# EAGLE library part PRO-MINI-BREAKOUT (library spietz-library)
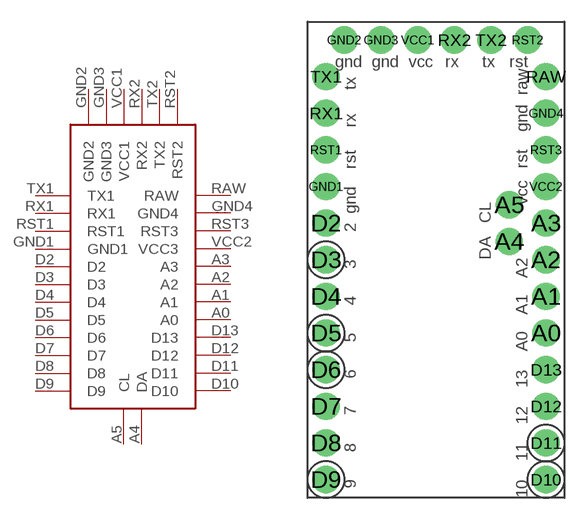
[diagram p2: symbol with the pads of PRO-MINI-BREAKOUT; footprint PRO-MINI-BREAKOUT]

Designator prefix -

## PRO-MINI-BREAKOUT  [PRO-MINI-BREAKOUT]
A0  A0
A1  A1
A2  A2
A3  A3
A4  DA
A5  CL
D2  D2
D3  D3
D4  D4
D5  D5
D6  D6
D7  D7
D8  D8
D9  D9
D10  D10
D11  D11
D12  D12
D13  D13
GND1  GND1
GND2  GND2
GND3  GND3
GND4  GND4
RAW  RAW
RST1  RST1
RST2  RST2
RST3  RST3
RX1  RX1
RX2  RX2
TX1  TX1
TX2  TX2
VCC1  VCC1
VCC2  VCC3

## Footprint PRO-MINI-BREAKOUT (pad centres in mm)
drill 1.016 pad 1.88: A0 7.62,11.43; A1 7.62,13.97; A2 7.62,16.51; A3 7.62,19.05; A4 5.08,17.78; A5 5.08,20.32; D2 -7.62,19.05; D3 -7.62,16.51; D4 -7.62,13.97; D5 -7.62,11.43; D6 -7.62,8.89; D7 -7.62,6.35; D8 -7.62,3.81; D9 -7.62,1.27; D10 7.62,1.27; D11 7.62,3.81; D12 7.62,6.35; D13 7.62,8.89; GND1 -7.62,21.59; GND2 -6.35,31.75; GND3 -3.81,31.75; GND4 7.62,26.67; RAW 7.62,29.21; RST1 -7.62,24.13; RST2 6.35,31.75; RST3 7.62,24.13; RX1 -7.62,26.67; RX2 1.27,31.75; TX1 -7.62,29.21; TX2 3.81,31.75; VCC1 -1.27,31.75; VCC2 7.62,21.59